# EAGLE library part HDMI-RCPT (library conn-hdmi)
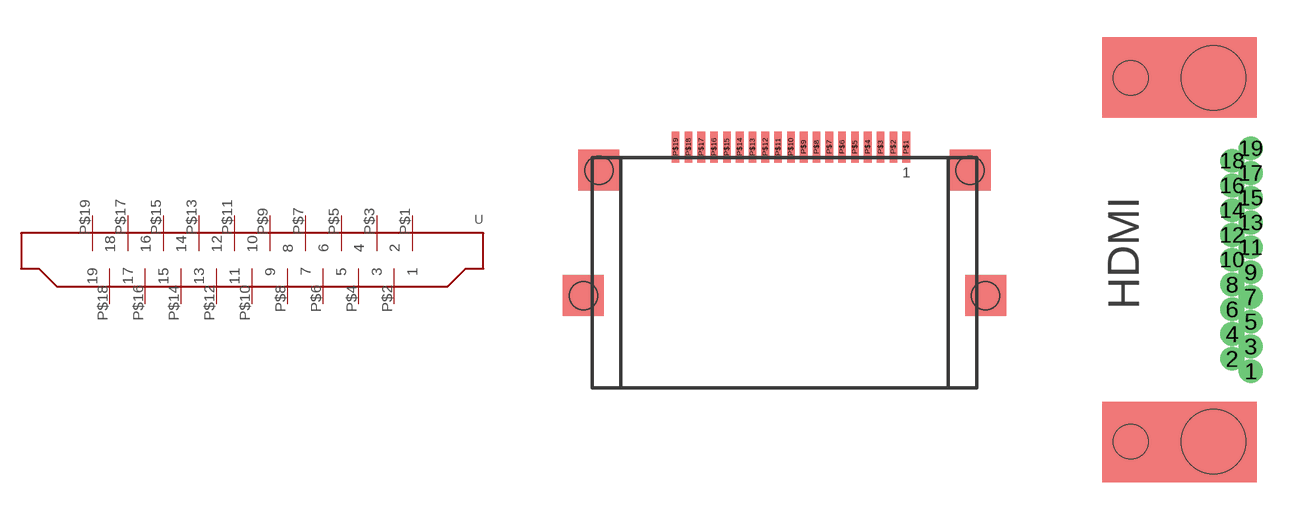
[diagram p0: symbol with the pads of HDMI-RA-SMD; footprints HDMI-RA-SMD, HDMI-RA-TH]

Designator prefix -

## HDMI-RCPT  [HDMI-RA-SMD]
P$1  1
P$2  2
P$3  3
P$4  4
P$5  5
P$6  6
P$7  7
P$8  8
P$9  9
P$10  10
P$11  11
P$12  12
P$13  13
P$14  14
P$15  15
P$16  16
P$17  17
P$18  18
P$19  19

## HDMI-RCPTTHROUGH  [HDMI-RA-TH]
1  1
2  2
3  3
4  4
5  5
6  6
7  7
8  8
9  9
10  10
11  11
12  12
13  13
14  14
15  15
16  16
17  17
18  18
19  19

## Footprint HDMI-RA-SMD (pad centres in mm)
smd 0.3 x 1.2: P$1 4.75,0.6; P$2 4.25,0.6; P$3 3.75,0.6; P$4 3.25,0.6; P$5 2.75,0.6; P$6 2.25,0.6; P$7 1.75,0.6; P$8 1.25,0.6; P$9 0.75,0.6; P$10 0.25,0.6; P$11 -0.25,0.6; P$12 -0.75,0.6; P$13 -1.25,0.6; P$14 -1.75,0.6; P$15 -2.25,0.6; P$16 -2.75,0.6; P$17 -3.25,0.6; P$18 -3.75,0.6; P$19 -4.25,0.6
hole 1.1 at -7.25,-0.3
hole 1.1 at 7.25,-0.3
hole 1.1 at -7.85,-5.2
hole 1.1 at 7.85,-5.2

## Footprint HDMI-RA-TH (pad centres in mm)
drill 0.45 pad 0.75: 1 0.75,-4.5; 2 0,-4; 3 0.75,-3.5; 4 0,-3; 5 0.75,-2.5; 6 0,-2; 7 0.75,-1.5; 8 0,-1; 9 0.75,-0.5; 10 0,0; 11 0.75,0.5; 12 0,1; 13 0.75,1.5; 14 0,2; 15 0.75,2.5; 16 0,3; 17 0.75,3.5; 18 0,4; 19 0.75,4.5
hole 2.6 at -0.75,7.35
hole 2.6 at -0.75,-7.35
hole 1.4 at -4.1,7.35
hole 1.4 at -4.1,-7.35